# EAGLE library part TCS310X (library light)
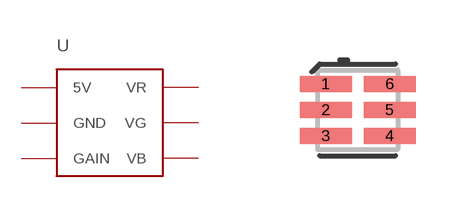
[diagram p0: symbol with the pads of TCS310XFN; footprint TCS310XFN]

Designator prefix -

## TCS310XFN  [TCS310XFN]
1  5V  pwr
2  GND  pwr
3  GAIN
4  VB
5  VG
6  VR

## Footprint TCS310XFN (pad centres in mm)
smd 1.3 x 0.4: 1 -0.8,0.65; 2 -0.8,0; 3 -0.8,-0.65; 4 0.8,-0.65; 5 0.8,0; 6 0.8,0.65